# Altium schematic symbol library XTAL.SchLib: 1 symbol
Pins are listed as number, name and electrical type; pins without a type are passive.

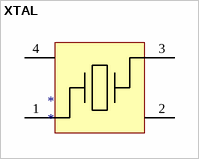
[diagram p0: symbol XTAL]

## XTAL
designator *
footprint XTAL
pins: 1, 2, 3, 4